# EAGLE library part CON-SUBD_F09 (library GP_RFID_LOGGER.6.3)
SUB-D
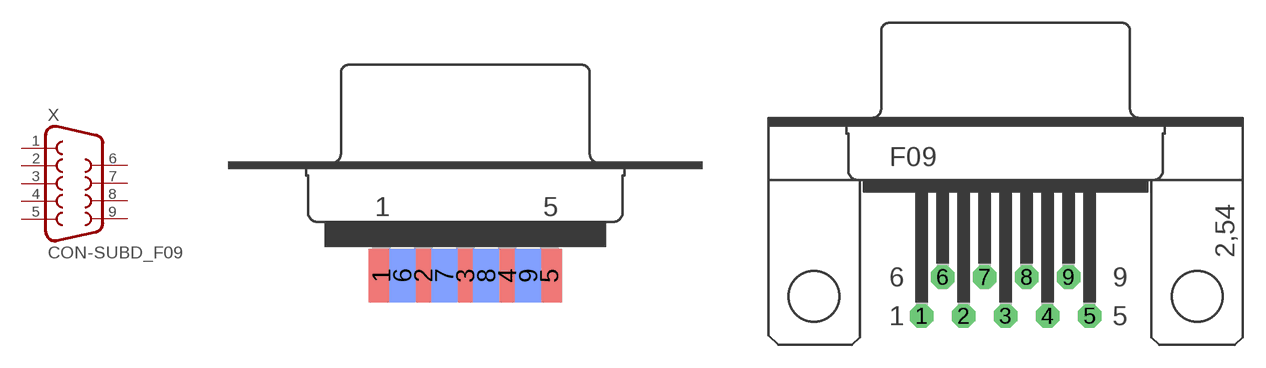
[diagram p3: symbol with the pads of CON-SUBD_F09D; footprints CON-SUBD_F09D, CON-SUBD_F09H]

Designator prefix X

## CON-SUBD_F09D  [CON-SUBD_F09D]
1  1  pas
2  2  pas
3  3  pas
4  4  pas
5  5  pas
6  6  pas
7  7  pas
8  8  pas
9  9  pas

## CON-SUBD_F09H  [CON-SUBD_F09H]
Pads as for CON-SUBD_F09D

## CON-SUBD_F09HP  [CON-SUBD_F09HP]
Pads as for CON-SUBD_F09D

## CON-SUBD_F09V  [CON-SUBD_F09V]
Pads as for CON-SUBD_F09D

## CON-SUBD_F09VB  [CON-SUBD_F09VB]
Pads as for CON-SUBD_F09D

## CON-SUBD_F09VP  [CON-SUBD_F09VP]
Pads as for CON-SUBD_F09D

## Footprint CON-SUBD_F09D (pad centres in mm)
SUB-D
smd 1.7 x 3.5: 1 -5.486,-6.045; 2 -2.743,-6.045; 3 0,-6.045; 4 2.743,-6.045; 5 5.486,-6.045
smd 1.7 x 3.5 bottom: 6 -4.115,-6.045; 7 -1.372,-6.045; 8 1.372,-6.045; 9 4.115,-6.045

## Footprint CON-SUBD_F09H (pad centres in mm)
SUB-D
drill 1.016 octagon: 1 -5.486,-1.27; 2 -2.743,-1.27; 3 0,-1.27; 4 2.743,-1.27; 5 5.486,-1.27; 6 -4.115,1.27; 7 -1.372,1.27; 8 1.372,1.27; 9 4.115,1.27
hole 3.302 at -12.522,0
hole 3.302 at 12.522,0

## Footprint CON-SUBD_F09HP (pad centres in mm)
SUB-D
drill 1.016 octagon: 1 -5.486,-1.27; 2 -2.743,-1.27; 3 0,-1.27; 4 2.743,-1.27; 5 5.486,-1.27; 6 -4.115,1.27; 7 -1.372,1.27; 8 1.372,1.27; 9 4.115,1.27
drill 3.302 pad 5.08: G1 -12.522,0; G2 12.522,0

## Footprint CON-SUBD_F09V (pad centres in mm)
SUB-D
drill 1.016 octagon: 1 5.486,1.422; 2 2.743,1.422; 3 0,1.422; 4 -2.743,1.422; 5 -5.486,1.422; 6 4.115,-1.422; 7 1.372,-1.422; 8 -1.372,-1.422; 9 -4.115,-1.422
hole 3.302 at -12.522,0
hole 3.302 at 12.522,0

## Footprint CON-SUBD_F09VB (pad centres in mm)
SUB-D
drill 1.016 octagon: 1 -5.486,-1.422; 2 -2.743,-1.422; 3 0,-1.422; 4 2.743,-1.422; 5 5.486,-1.422; 6 -4.115,1.422; 7 -1.372,1.422; 8 1.372,1.422; 9 4.115,1.422

## Footprint CON-SUBD_F09VP (pad centres in mm)
SUB-D
drill 1.016 octagon: 1 5.486,1.422; 4 -2.743,1.422; 6 4.115,-1.422; 7 1.372,-1.422; 8 -1.372,-1.422; 9 -4.115,-1.422
drill 1.016 pad 2.032 square: 2 2.743,1.422; 3 0,1.422; 5 -5.486,1.422
drill 3.302 pad 5.08: G1 -12.522,0; G2 12.522,0